# EAGLE library part STLINKV2_SWD_IF (library Connectors)
ST-LINK V2-1用 SWDインターフェース #1-#5は、NUCLEO-F767ZI付属のST-LINK V2-1上のCN6[#2-#6]と接続 （CN6側の#1には接続しません） #6,#7は、NUCLEO-F767ZI付属のST-LINK V2-1上のCN5[#1-#2]と接続 +5Vは、NUCLEOのJP3[U5V]から別途供給
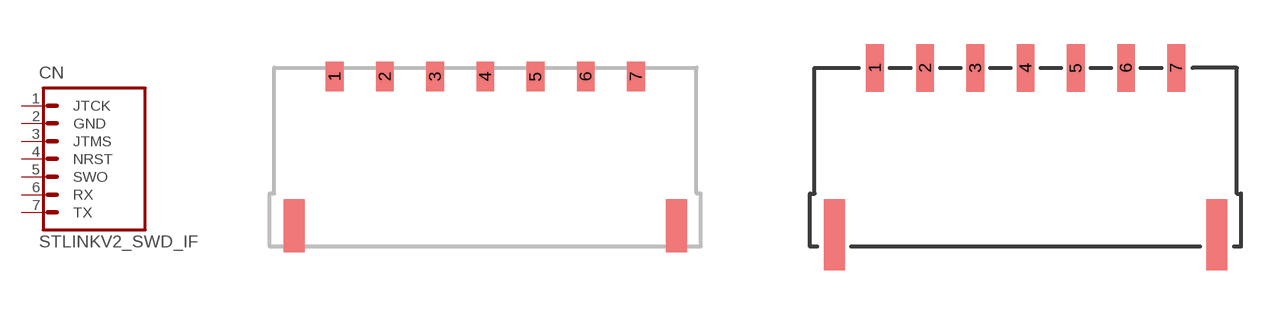
[diagram p2: symbol with the pads of DF65-7P-1.7V; footprints DF65-7P-1.7V, DF65-7P-1.7V_DEV]

Designator prefix CN

## STLINKV2_SWD_IF  [DF65-7P-1.7V]
1  JTCK
2  GND  pas
3  JTMS
4  NRST
5  SWO
6  RX
7  TX

## STLINKV2_SWD_IF_  [DF65-7P-1.7V_DEV]
Pads as for DF65-7P-1.7V

## Footprint DF65-7P-1.7V (pad centres in mm)
DF65 Series 1.7mm pitch, Low Profile Wire-to-Board Connectors
smd 0.6 x 1: 1 -5.1,0; 2 -3.4,0; 3 -1.7,0; 4 0,0; 5 1.7,0; 6 3.4,0; 7 5.1,0

## Footprint DF65-7P-1.7V_DEV (pad centres in mm)
DF65 Series 1.7mm pitch, Low Profile Wire-to-Board Connectors
smd 0.6 x 1.6: 1 -5.1,0.3; 2 -3.4,0.3; 3 -1.7,0.3; 4 0,0.3; 5 1.7,0.3; 6 3.4,0.3; 7 5.1,0.3